# EAGLE library part JTAG_CONNECTOR (library JTAG Connector)
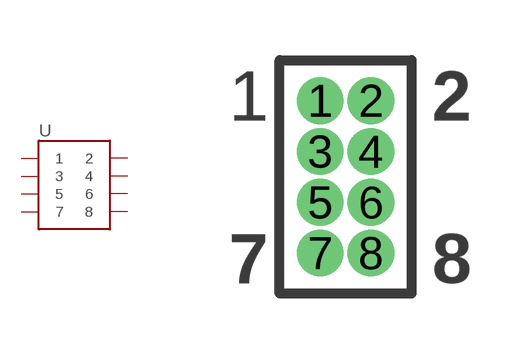
[diagram p0: symbol with the pads of JTAG_DIP; footprint JTAG_DIP]

Designator prefix -

## JTAG_CONNECTOR  [JTAG_DIP]
1  1
2  2
3  3
4  4
5  5
6  6
7  7
8  8

## Footprint JTAG_DIP (pad centres in mm)
drill 0.66 pad 1.016: 1 0,0; 2 1.27,0; 3 0,-1.27; 4 1.27,-1.27; 5 0,-2.54; 6 1.27,-2.54; 7 0,-3.81; 8 1.27,-3.81